# EAGLE library part FH12-50S-0.5SV(55) (library Hirose_By_element14_Batch_1)
SOCKET FFC/FPC, ZIF, 0.5MM, 50WAY
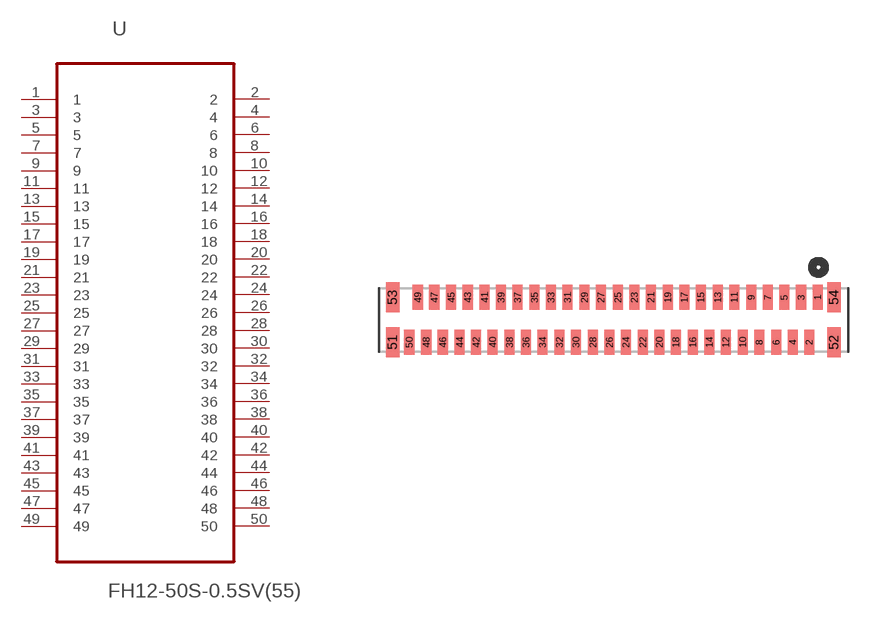
[diagram p3: symbol with the pads of HIROSE_FH12-50S-0.5SV(55); footprint HIROSE_FH12-50S-0.5SV(55)]

Designator prefix U

## FH12-50S-0.5SV(55) (MPN: FH12-50S-0.5SV(55); OC_FARNELL: 1324584; OC_NEWARK: 34M6182; PACKAGE: SOCKET FFC/FPC, ZIF, 0.5MM, 50WAY; SUPPLIER: Hirose)  [HIROSE_FH12-50S-0.5SV(55)]
1  1  pas
2  2  pas
3  3  pas
4  4  pas
5  5  pas
6  6  pas
7  7  pas
8  8  pas
9  9  pas
10  10  pas
11  11  pas
12  12  pas
13  13  pas
14  14  pas
15  15  pas
16  16  pas
17  17  pas
18  18  pas
19  19  pas
20  20  pas
21  21  pas
22  22  pas
23  23  pas
24  24  pas
25  25  pas
26  26  pas
27  27  pas
28  28  pas
29  29  pas
30  30  pas
31  31  pas
32  32  pas
33  33  pas
34  34  pas
35  35  pas
36  36  pas
37  37  pas
38  38  pas
39  39  pas
40  40  pas
41  41  pas
42  42  pas
43  43  pas
44  44  pas
45  45  pas
46  46  pas
47  47  pas
48  48  pas
49  49  pas
50  50  pas

## Footprint HIROSE_FH12-50S-0.5SV(55) (pad centres in mm)
smd 0.61 x 1.499: 1 0,5.385; 2 -0.508,2.692; 3 -0.991,5.385; 4 -1.499,2.692; 5 -2.007,5.385; 6 -2.489,2.692; 7 -2.997,5.385; 8 -3.505,2.692; 9 -3.988,5.385; 10 -4.496,2.692; 11 -5.004,5.385; 12 -5.512,2.692; 13 -5.994,5.385; 14 -6.502,2.692; 15 -7.01,5.385; 16 -7.493,2.692; 17 -8.001,5.385; 18 -8.509,2.692; 19 -8.992,5.385; 20 -9.5,2.692; 21 -10.008,5.385; 22 -10.49,2.692; 23 -10.998,5.385; 24 -11.506,2.692; 25 -11.989,5.385; 26 -12.497,2.692; 27 -13.005,5.385; 28 -13.487,2.692; 29 -13.995,5.385; 30 -14.503,2.692; 31 -15.011,5.385; 32 -15.494,2.692; 33 -16.002,5.385; 34 -16.51,2.692; 35 -16.993,5.385; 36 -17.501,2.692; 37 -18.009,5.385; 38 -18.491,2.692; 39 -18.999,5.385; 40 -19.507,2.692; 41 -19.99,5.385; 42 -20.498,2.692; 43 -21.006,5.385; 44 -21.488,2.692; 45 -21.996,5.385; 46 -22.504,2.692; 47 -23.012,5.385; 48 -23.495,2.692; 49 -24.003,5.385; 50 -24.511,2.692
smd 0.813 x 1.803: 51 -25.502,2.692; 52 0.991,2.692; 53 -25.502,5.385; 54 0.991,5.385